# EAGLE library part WII6PF (library WII6PF-liblary)
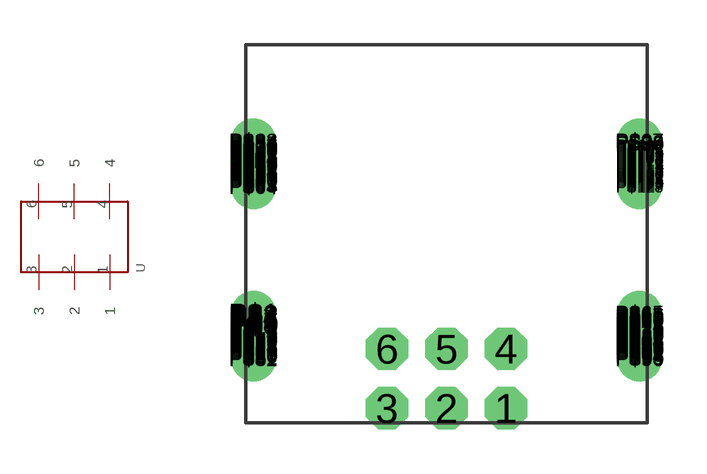
[diagram p0: symbol with the pads of WII6PF; footprint WII6PF]

Designator prefix -

## WII6PF  [WII6PF]
1  1
2  2
3  3
4  4
5  5
6  6

## Footprint WII6PF (pad centres in mm)
drill 0.6 pad 1.422 octagon: 1 2,-1; 2 0,-1; 3 -2,-1; 4 2,1; 5 0,1; 6 -2,1
drill 0.6 pad 1.5: P$1 -6.5,2.2; P$2 -6.5,2.15; P$3 -6.5,2.1; P$4 -6.5,2.05; P$5 -6.5,2; P$6 -6.5,1.95; P$7 -6.5,1.9; P$8 -6.5,1.85; P$9 -6.5,1.8; P$10 -6.5,1.75; P$11 -6.5,1.7; P$12 -6.5,1.6; P$13 -6.5,1.65; P$14 -6.5,1.5; P$15 -6.5,1.55; P$16 -6.5,1.45; P$17 -6.5,1.4; P$18 -6.5,1.35; P$19 -6.5,1.3; P$20 -6.5,1.25; P$21 -6.5,1.2; P$22 -6.5,1.15; P$23 -6.5,1.1; P$24 -6.5,1.05; P$25 -6.5,1; P$26 -6.5,0.95; P$27 -6.5,0.9; P$28 -6.5,0.85; P$29 -6.5,0.8; P$30 -6.5,0.75; P$31 -6.5,0.7; P$32 -6.5,0.65; P$33 -6.5,8; P$34 -6.5,7.95; P$35 -6.5,7.9; P$36 -6.5,7.85; P$37 -6.5,7.8; P$38 -6.5,7.75; P$39 -6.5,7.7; P$40 -6.5,7.65; P$41 -6.5,7.6; P$42 -6.5,7.55; P$43 -6.5,7.5; P$44 -6.5,7.4; P$45 -6.5,7.45; P$46 -6.5,7.3; P$47 -6.5,7.35; P$48 -6.5,7.25; P$49 -6.5,7.2; P$50 -6.5,7.15; P$51 -6.5,7.1; P$52 -6.5,7.05; P$53 -6.5,7; P$54 -6.5,6.95; P$55 -6.5,6.9; P$56 -6.5,6.85; P$57 -6.5,6.8; P$58 -6.5,6.75; P$59 -6.5,6.7; P$60 -6.5,6.65; P$61 -6.5,6.6; P$62 -6.5,6.55; P$63 -6.5,6.5; P$64 -6.5,6.45; P$65 6.5,2.2; P$66 6.5,2.15; P$67 6.5,2.1; P$68 6.5,2.05; P$69 6.5,2; P$70 6.5,1.95; P$71 6.5,1.9; P$72 6.5,1.85; P$73 6.5,1.8; P$74 6.5,1.75; P$75 6.5,1.7; P$76 6.5,1.6; P$77 6.5,1.65; P$78 6.5,1.5; P$79 6.5,1.55; P$80 6.5,1.45; P$81 6.5,1.4; P$82 6.5,1.35; P$83 6.5,1.3; P$84 6.5,1.25; P$85 6.5,1.2; P$86 6.5,1.15; P$87 6.5,1.1; P$88 6.5,1.05; P$89 6.5,1; P$90 6.5,0.95; P$91 6.5,0.9; P$92 6.5,0.85; P$93 6.5,0.8; P$94 6.5,0.75; P$95 6.5,0.7; P$96 6.5,0.65; P$97 6.5,8; P$98 6.5,7.95; P$99 6.5,7.9; P$100 6.5,7.85; P$101 6.5,7.8; P$102 6.5,7.75; P$103 6.5,7.7; P$104 6.5,7.65; P$105 6.5,7.6; P$106 6.5,7.55; P$107 6.5,7.5; P$108 6.5,7.4; P$109 6.5,7.45; P$110 6.5,7.3; P$111 6.5,7.35; P$112 6.5,7.25; P$113 6.5,7.2; P$114 6.5,7.15; P$115 6.5,7.1; P$116 6.5,7.05; P$117 6.5,7; P$118 6.5,6.95; P$119 6.5,6.9; P$120 6.5,6.85; P$121 6.5,6.8; P$122 6.5,6.75; P$123 6.5,6.7; P$124 6.5,6.65; P$125 6.5,6.6; P$126 6.5,6.55; P$127 6.5,6.5; P$128 6.5,6.45